# Altium schematic symbol library Chip Inductor.SchLib: 6 symbols
Pins are listed as number, name and electrical type; pins without a type are passive.

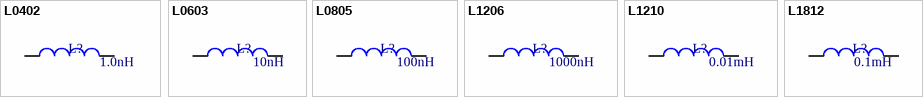
[diagram p0: symbols L0402 to L1812]

## L0402
designator L?  value 1.0nH  (hidden comment: L0402)
0402 Chip Inductor - Standard; Series: *
simulation model IND (Inductor)
signal-integrity model L0402
footprint 0402RES (Chip Resistor; Body 1.0 x 0.5 mm (LxW typ))
pins: 1, 2

## L0603
designator L?  value 10nH  (hidden comment: L0603)
0603 Chip Inductor - Standard
simulation model IND (Inductor)
signal-integrity model L0603
footprint 0603RES (Chip Resistor; Body 1.6 x 0.8 mm (LxW typ))
pins: 1, 2

## L0805
designator L?  value 100nH  (hidden comment: L0805)
0805 Chip Inductor - Standard; Series: *
simulation model IND (Inductor)
signal-integrity model L0805
footprint 0805RES (Chip Resistor Body 2.0 x 1.2 mm (LxW typ))
pins: 1, 2

## L1206
designator L?  value 1000nH  (hidden comment: L1206)
1206 Chip Inductor - Standard
simulation model IND (Inductor)
signal-integrity model L1206
footprint 1206RES (Chip Resistor; Body 3.2 x 1.6 mm (LxW typ))
pins: 1, 2

## L1210
designator L?  value 0.01mH  (hidden comment: L1210)
1210 Chip Inductor - Standard
simulation model IND (Inductor)
signal-integrity model L1210
footprint 1210RES (Chip Capacitor; Body 3.2 x 2.5 mm (LxW typ))
pins: 1, 2

## L1812
designator L?  value 0.1mH  (hidden comment: L1812)
1812 Chip Inductor - Standard; Series: *
simulation model IND (Inductor)
signal-integrity model L1812
footprint 1812 (Chip Capacitor; Body 4.5 x 3.2 mm (LxW typ))
pins: 1, 2